# Altium footprint library device.PcbLib: 49 footprints (part 4 of 4)
Each footprint in its own frame and in the unit in brackets; x right, y up, seen from the top. Pads: shape width x height; smd on the part's side, far side on the other; paste and mask are expansions set on the pad; w line width, h text height; cw(c..) or ccw(c..) is an arc to the next point about the centre after c.
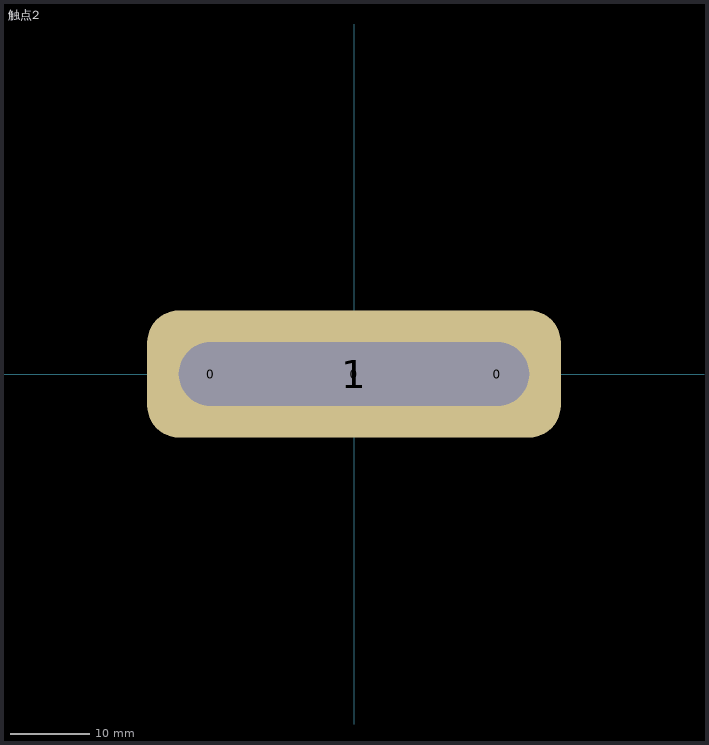
[diagram p3: the footprint, top view; thin cyan lines are the x and y axes]

## 触点2 [mm]
pads (4):
  rect 2x2 hole 8 square: 0(-18,0) 0(18,0)
  rect 2x2 hole 8 slot 44 at 0 deg: 0(0,0)
  rrect50% 52x16 smd: 1(0,0)